# EAGLE library part HM55B_COMPASS (library MlabPaja)
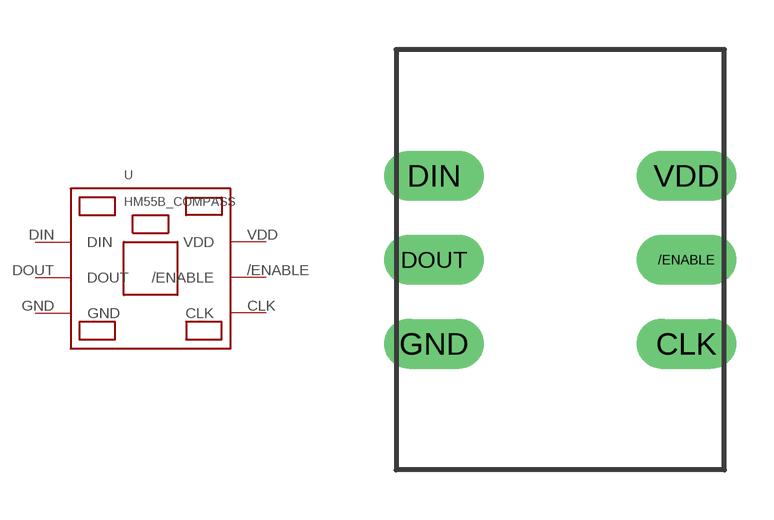
[diagram p10: symbol with the pads of HM55B_COMPASS; footprint HM55B_COMPASS]

Designator prefix -

## HM55B_COMPASS  [HM55B_COMPASS]
/ENABLE  /ENABLE
CLK  CLK
DIN  DIN
DOUT  DOUT
GND  GND  pwr
VDD  VDD  pwr

## Footprint HM55B_COMPASS (pad centres in mm)
drill 1 long: /ENABLE 3.81,-1.27; CLK 3.81,-3.81; DIN -3.81,1.27; DOUT -3.81,-1.27; GND -3.81,-3.81; VDD 3.81,1.27